# Altium footprint library HTSOP-J8_ROM-BD9C601EFJ-E2.PcbLib: 1 footprints
Each footprint in its own frame and in the unit in brackets; x right, y up, seen from the top. Pads: shape width x height; smd on the part's side, far side on the other; paste and mask are expansions set on the pad; w line width, h text height; cw(c..) or ccw(c..) is an arc to the next point about the centre after c.
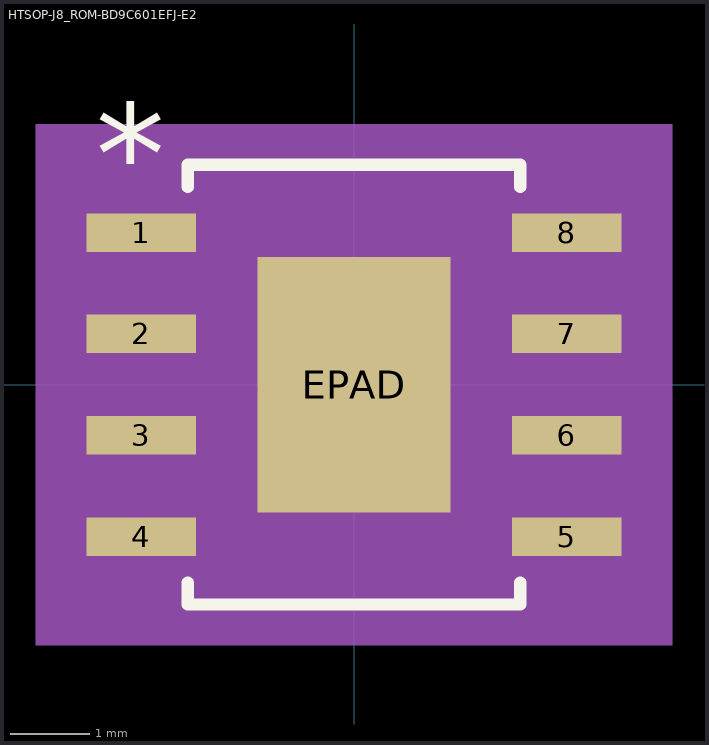
[diagram p0: the footprint, top view; thin cyan lines are the x and y axes]

## HTSOP-J8_ROM-BD9C601EFJ-E2 [mil]
pads (9):
  rect 54x19 smd paste+0 mask+0: 1(-105,75) 2(-105,25) 3(-105,-25) 4(-105,-75) 5(105,-75) 6(105,-25) 7(105,25) 8(105,75)
  rect 95x126 smd paste-62.5 mask+0: EPAD(0,0)
Top Overlay:
  lines w6: -82,-97.6 -82,-108.5 82,-108.5 82,-97.6 ; -82,97.6 -82,108.5 82,108.5 82,97.6
  text "*" at -127.5,89 h50
Top Paste:
  region: 43.56,-3.94 -43.56,-3.94 -43.56,-59.06 43.56,-59.06
  region: 43.56,59.06 -43.56,59.06 -43.56,3.94 43.56,3.94
Mechanical 5:
  region: 157,-128.5 -157,-128.5 -157,128.5 157,128.5
Mechanical 13:
  lines w0: -12,103.5 ccw(c0,103.5) 12,103.5
  lines w1: -118,-83.5 -77,-83.5 -77,-66.5 -118,-66.5 -118,-83.5 ; -118,-33.5 -77,-33.5 -77,-16.5 -118,-16.5 -118,-33.5 ; -118,16.5 -77,16.5 -77,33.5 -118,33.5 -118,16.5 ; -118,66.5 -77,66.5 -77,83.5 -118,83.5 -118,66.5 ; -77,-103.5 -77,103.5 77,103.5 77,-103.5 -77,-103.5 ; 77,-83.5 118,-83.5 118,-66.5 77,-66.5 77,-83.5 ; 77,-33.5 118,-33.5 118,-16.5 77,-16.5 77,-33.5 ; 77,16.5 118,16.5 118,33.5 77,33.5 77,16.5 ; 77,66.5 118,66.5 118,83.5 77,83.5 77,66.5
  text "*" at -74.5,50.5 h50
Mechanical 15:
  region: -87,-94.5 -142,-94.5 -142,94.5 -87,94.5 -87,113.5 87,113.5 87,94.5 142,94.5 142,-94.5 87,-94.5 87,-113.5 -87,-113.5
  lines w6: -142,-94.5 -87,-94.5 -87,-113.5 87,-113.5 87,-94.5 142,-94.5 142,94.5 87,94.5 87,113.5 -87,113.5 -87,94.5 -142,94.5 -142,-94.5
3D body "HTSOP-J8_ROM.step": height 39.09, standoff 0, extent -117.99,-103.5 117.99,103.5